# Altium footprint library SSOP-28_AD.PcbLib: 1 footprints
Each footprint in its own frame and in the unit in brackets; x right, y up, seen from the top. Pads: shape width x height; smd on the part's side, far side on the other; paste and mask are expansions set on the pad; w line width, h text height; cw(c..) or ccw(c..) is an arc to the next point about the centre after c.
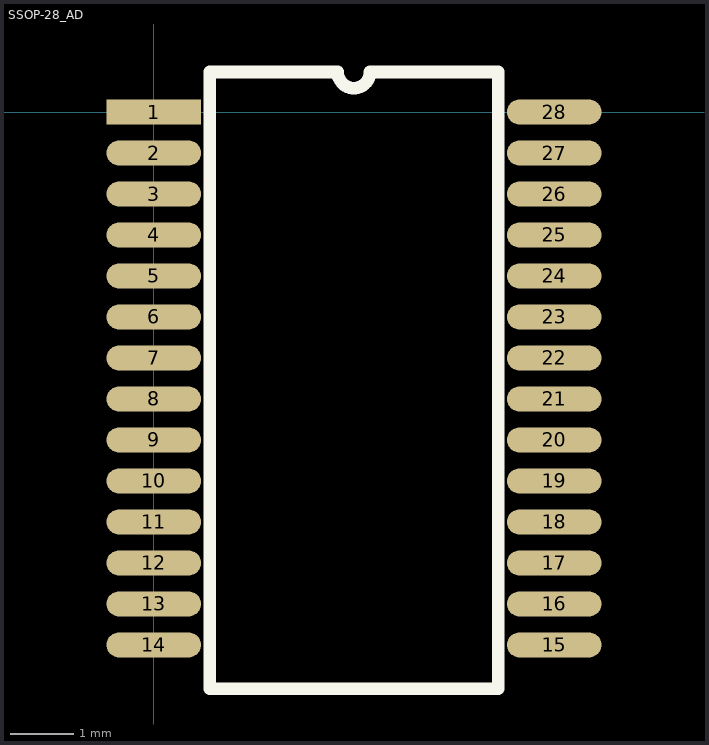
[diagram p0: the footprint, top view; thin cyan lines are the x and y axes]

## SSOP-28_AD [mm]
pads (28):
  rect 1.5x0.396 smd: 1(0,0)
  oval 1.5x0.396 smd: 2(0,-0.65) 3(0,-1.3) 4(0,-1.95) 5(0,-2.6) 6(0,-3.25) 7(0,-3.9) 8(0,-4.55) 9(0,-5.2) 10(0,-5.85) 11(0,-6.5) 12(0,-7.15) 13(0,-7.8) 14(0,-8.45) 15(6.35,-8.45) 16(6.35,-7.8) 17(6.35,-7.15) 18(6.35,-6.5) 19(6.35,-5.85) 20(6.35,-5.2) 21(6.35,-4.55) 22(6.35,-3.9) 23(6.35,-3.25) 24(6.35,-2.6) 25(6.35,-1.95) 26(6.35,-1.3) 27(6.35,-0.65) 28(6.35,0)
Top Overlay:
  lines w0.2: 0.889,-9.144 0.889,0.635 2.916,0.635 ccw(c3.173,0.635) 3.429,0.635 5.461,0.635 5.461,-9.144 0.889,-9.144